# Altium footprint library RBR-RAMON.PcbLib: 1 footprints
Each footprint in its own frame and in the unit in brackets; x right, y up, seen from the top. Pads: shape width x height; smd on the part's side, far side on the other; paste and mask are expansions set on the pad; w line width, h text height; cw(c..) or ccw(c..) is an arc to the next point about the centre after c.
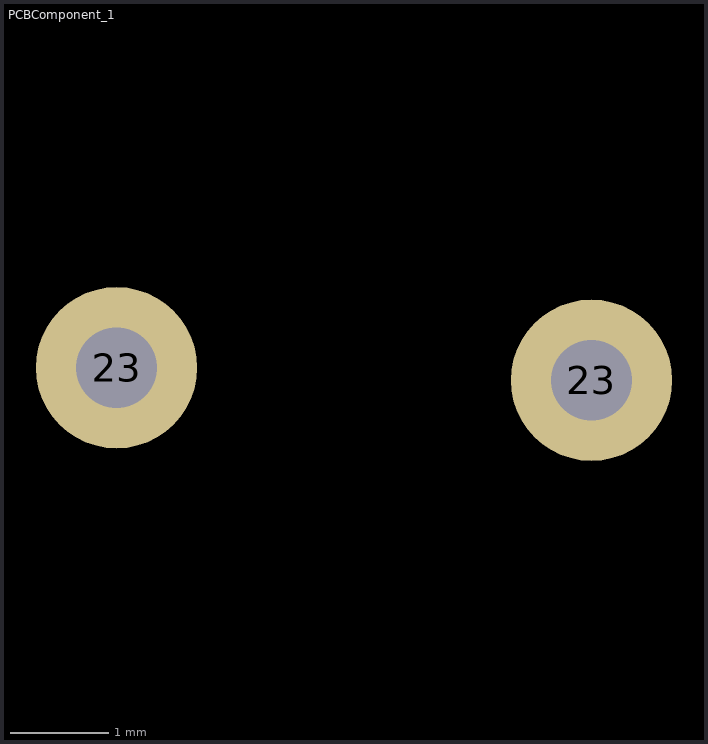
[diagram p0: the footprint, top view; thin cyan lines are the x and y axes]

## PCBComponent_1 [mm]
pads (2):
  round 1.64 hole 0.82 square: 23(-7.366,7.747) 23(-2.54,7.62)
3D body "8-Pin Header - Female - 2.54mm.STEP": height 5, standoff -3, extent -8.89,6.517 11.93,9.017